# Altium schematic symbol library STM32L431KBU6TR.SchLib: 1 symbol
Pins are listed as number, name and electrical type; pins without a type are passive.

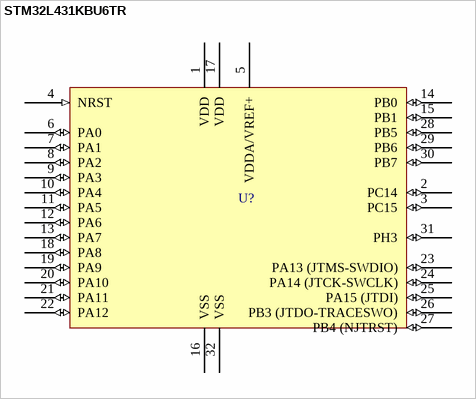
[diagram p0: symbol STM32L431KBU6TR]

## STM32L431KBU6TR
designator U?  (value not drawn)
Ultra-low-power with FPU Arm Cortex-M4 MCU 80 MHz with 128 Kbytes of Flash memory
pins: 1 VDD (power), 2 PC14 (io), 3 PC15 (io), 4 NRST (in), 5 VDDA/VREF+ (power), 6 PA0 (io), 7 PA1 (io), 8 PA2 (io), 9 PA3 (io), 10 PA4 (io), 11 PA5 (io), 12 PA6 (io), 13 PA7 (io), 14 PB0 (io), 15 PB1 (io), 16 VSS (power), 17 VDD (power), 18 PA8 (io), 19 PA9 (io), 20 PA10 (io), 21 PA11 (io), 22 PA12 (io), 23 PA13 (JTMS-SWDIO) (io), 24 PA14 (JTCK-SWCLK) (io), 25 PA15 (JTDI) (io), 26 PB3 (JTDO-TRACESWO) (io), 27 PB4 (NJTRST) (io), 28 PB5 (io), 29 PB6 (io), 30 PB7 (io), 31 PH3 (io), 32 VSS (power)